# EAGLE library part PWR_REG_MP8007 (library !GPLIB_ACTIVE)
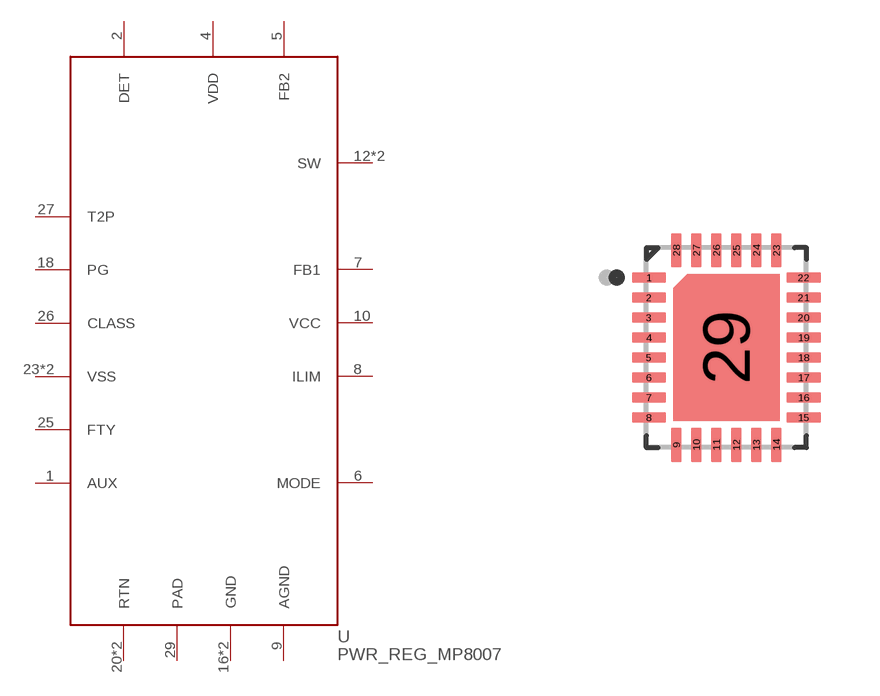
[diagram p118: symbol with the pads of QFN50P500X400X80-29N; footprint QFN50P500X400X80-29N]

Designator prefix U

## PWR_REG_MP8007  [QFN50P500X400X80-29N]
1  AUX  in
2  DET  in
4  VDD  pwr
5  FB2  in
6  MODE  in
7  FB1  in
8  ILIM  in
9  AGND  pwr
10  VCC  pwr
12  SW  out
13  SW  out
16  GND  pwr
17  GND  pwr
18  PG  in
20  RTN  pwr
21  RTN  pwr
23  VSS  out
24  VSS  out
25  FTY  pas
26  CLASS  in
27  T2P  oc
29  PAD  pwr

## Footprint QFN50P500X400X80-29N (pad centres in mm)
smd 0.86 x 0.27: 1 -1.935,1.75; 2 -1.935,1.25; 3 -1.935,0.75; 4 -1.935,0.25; 5 -1.935,-0.25; 6 -1.935,-0.75; 7 -1.935,-1.25; 8 -1.935,-1.75; 15 1.935,-1.75; 16 1.935,-1.25; 17 1.935,-0.75; 18 1.935,-0.25; 19 1.935,0.25; 20 1.935,0.75; 21 1.935,1.25; 22 1.935,1.75
smd 0.27 x 0.86: 9 -1.25,-2.435; 10 -0.75,-2.435; 11 -0.25,-2.435; 12 0.25,-2.435; 13 0.75,-2.435; 14 1.25,-2.435; 23 1.25,2.435; 24 0.75,2.435; 25 0.25,2.435; 26 -0.25,2.435; 27 -0.75,2.435; 28 -1.25,2.435
smd 1.68 x 2.3: 29 0,0